# EAGLE library part A3950-DIL (library A3950)
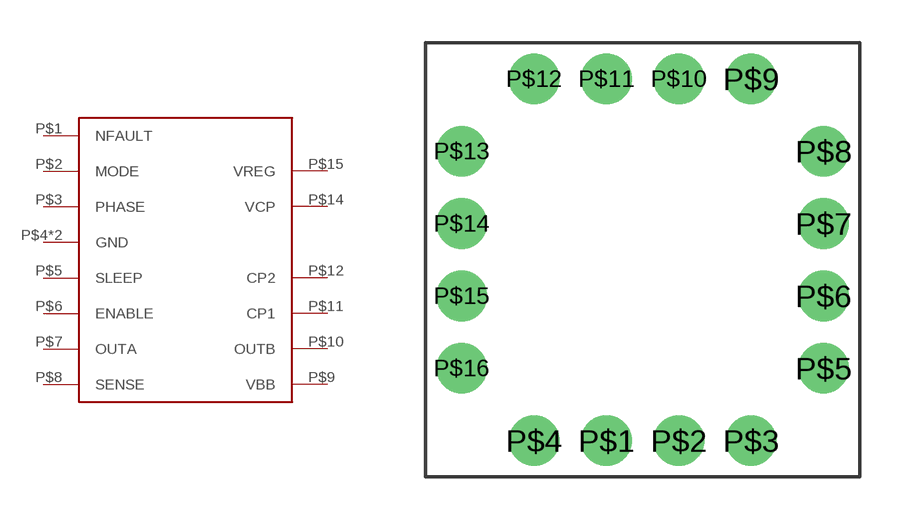
[diagram p1: symbol with the pads of DIL16; footprint DIL16]

Designator prefix -

## A3950-DIL  [DIL16]
P$1  NFAULT
P$2  MODE
P$3  PHASE
P$4  GND
P$5  SLEEP
P$6  ENABLE
P$7  OUTA
P$8  SENSE
P$9  VBB
P$10  OUTB
P$11  CP1
P$12  CP2
P$13  GND
P$14  VCP
P$15  VREG

## Footprint DIL16 (pad centres in mm)
drill 0.8 pad 1.778: P$1 -1.27,-6.35; P$2 1.27,-6.35; P$3 3.81,-6.35; P$4 -3.81,-6.35; P$5 6.35,-3.81; P$6 6.35,-1.27; P$7 6.35,1.27; P$8 6.35,3.81; P$9 3.81,6.35; P$10 1.27,6.35; P$11 -1.27,6.35; P$12 -3.81,6.35; P$13 -6.35,3.81; P$14 -6.35,1.27; P$15 -6.35,-1.27; P$16 -6.35,-3.81